# Altium schematic symbol library DS18B20.SchLib: 1 symbol
Pins are listed as number, name and electrical type; pins without a type are passive.

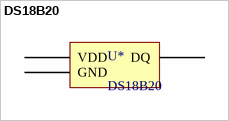
[diagram p0: symbol DS18B20]

## DS18B20
designator U*
footprint DS18B20
pins: 1 GND (power), 2 DQ, 3 VDD (power)